# Altium schematic symbol library ANT-8WPIG-UFL.Schlib: 1 symbol
Pins are listed as number, name and electrical type; pins without a type are passive.

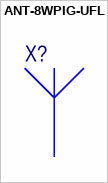
[diagram p0: symbol ANT-8WPIG-UFL]

## ANT-8WPIG-UFL
designator X?  (mechanical)
RF ANT 868MHZ WHIP STR U.FL 50MM; Manufacturer: RF Solutions; Manufacturer Part Number: ANT-8WPIG-UFL; Category: RF/IF and RFID